# Altium footprint library Footprint.PcbLib: 155 footprints (part 6 of 10)
Each footprint in its own frame and in the unit in brackets; x right, y up, seen from the top. Pads: shape width x height; smd on the part's side, far side on the other; paste and mask are expansions set on the pad; w line width, h text height; cw(c..) or ccw(c..) is an arc to the next point about the centre after c.
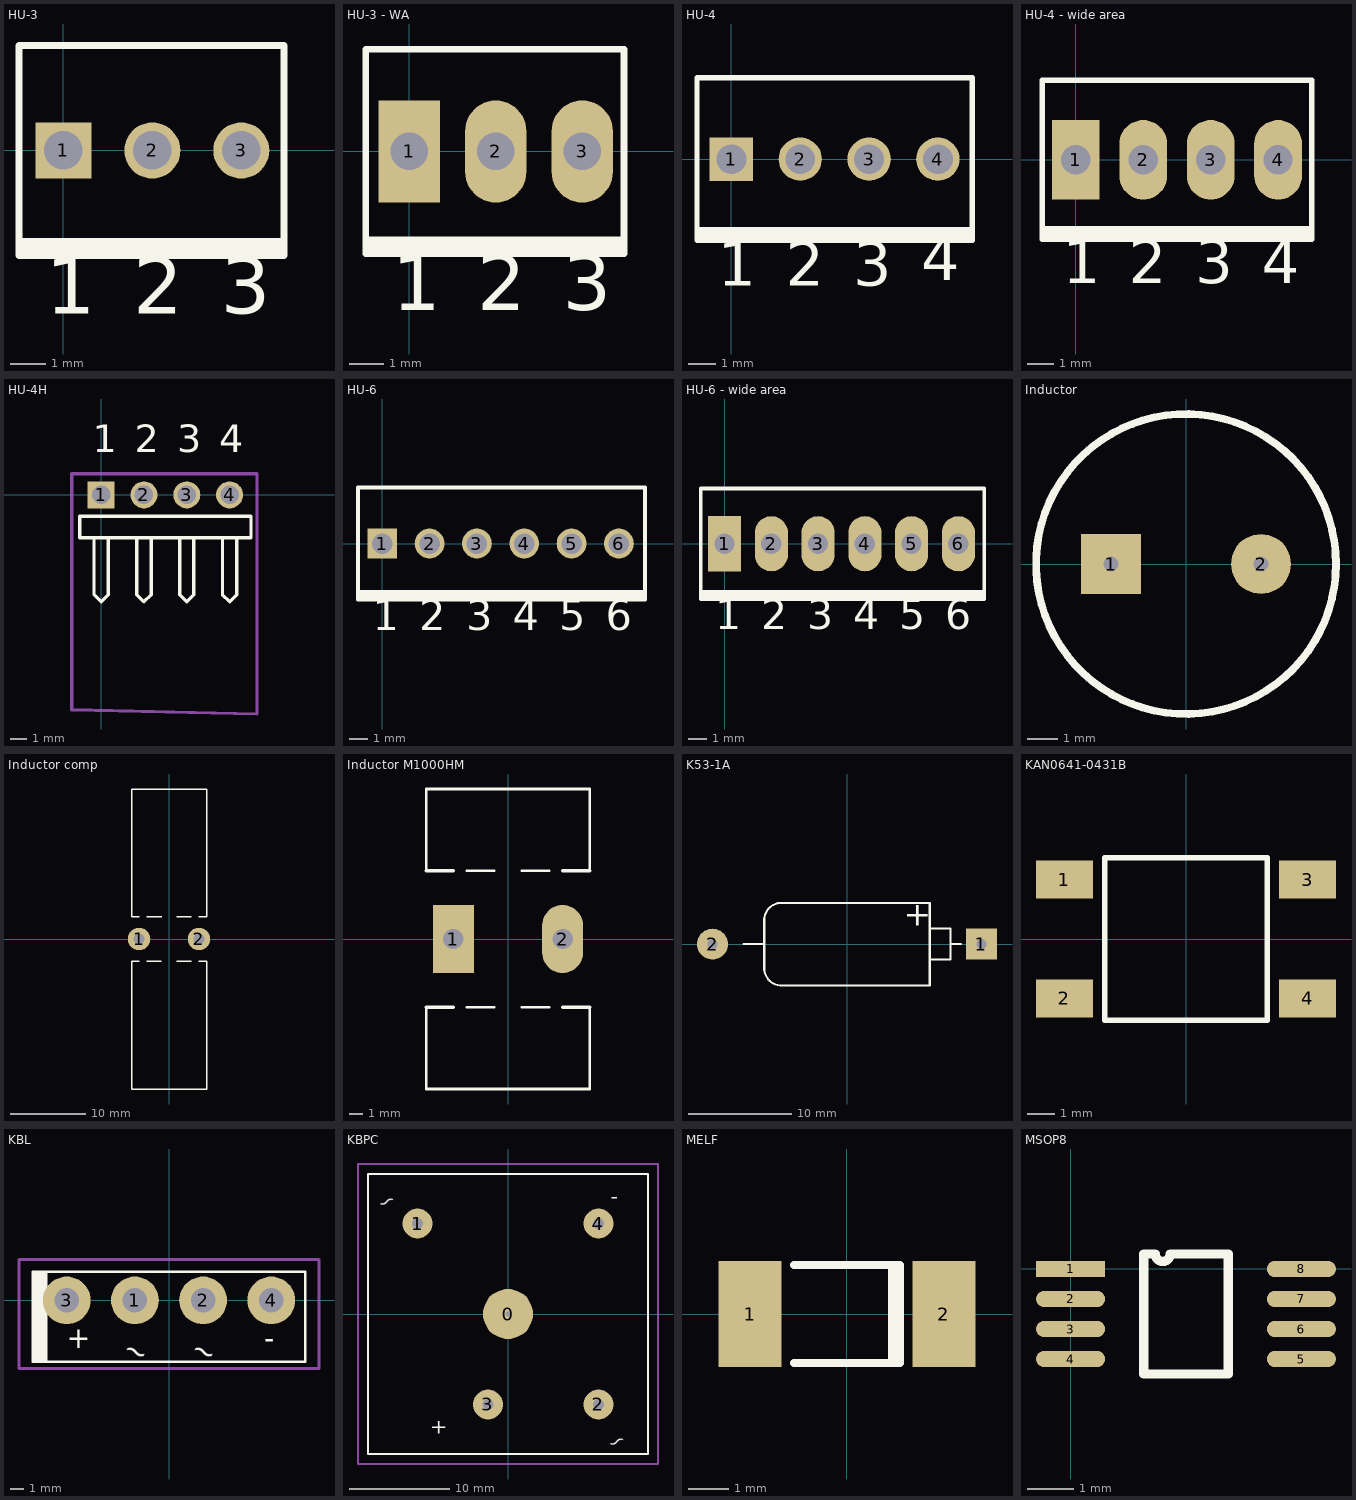
[diagram p5: the footprints below, top view; thin cyan lines are the x and y axes]

## HU-3 [mm] "Connector; Header; 4 Position"
pads (3):
  rect 1.6x1.6 hole 1.1: 1(0,0)
  round 1.6 hole 1.1: 2(2.54,0) 3(5.08,0)
Top Overlay:
  rectangle: -1.25,-3 6.3,-2.5
  lines w0.2: -1.27,-3 6.3,-3 6.3,3 -1.27,3 -1.27,-3
  text "1" at -0.5,-5.2 h2.8
  text "2" at 2,-5.2 h2.8
  text "3" at 4.5,-5.2 h2.8

## HU-3 - WA [mm] "Connector; Header; 4 Position"
pads (3):
  rect 1.8x3 hole 1.1: 1(0,0)
  oval 1.8x3 hole 1.1: 2(2.54,0) 3(5.08,0)
Top Overlay:
  rectangle: -1.25,-3 6.3,-2.5
  lines w0.2: -1.27,-3 -1.27,3 6.3,3 6.3,-3 -1.27,-3
  text "1" at -0.5,-5.2 h2.8
  text "3" at 4.5,-5.2 h2.8
  text "2" at 2,-5.2 h2.8

## HU-4 [mm] "Connector; Header; 4 Position"
pads (4):
  rect 1.6x1.6 hole 1.1: 1(0,0)
  round 1.6 hole 1.1: 2(2.54,0) 3(5.08,0) 4(7.62,0)
Top Overlay:
  rectangle: -1.25,-3 8.9,-2.5
  lines w0.2: -1.27,-3 -1.27,3 8.89,3 8.89,-3 -1.27,-3
  text "1" at -0.5,-5.2 h2.8
  text "2" at 2,-5.2 h2.8
  text "4" at 7,-5 h2.8
  text "3" at 4.5,-5.2 h2.8

## HU-4 - wide area [mm] "Connector; Header; 4 Position"
pads (4):
  rect 1.8x3 hole 1.1: 1(0,0)
  oval 1.8x3 hole 1.1: 2(2.54,0) 3(5.08,0) 4(7.62,0)
Top Overlay:
  rectangle: -1.25,-3 8.9,-2.5
  lines w0.2: -1.27,-3 -1.27,3 8.89,3 8.89,-3 -1.27,-3
  text "1" at -0.5,-5.2 h2.8
  text "2" at 2,-5.2 h2.8
  text "3" at 4.5,-5.2 h2.8
  text "4" at 7,-5.2 h2.8

## HU-4H [mm] "Connector; Header; 4 Position; Right Angle"
pads (4):
  rect 1.6x1.6 hole 1.1: 1(0,0)
  round 1.6 hole 1.1: 2(2.54,0) 3(5.08,0) 4(7.62,0)
Top Overlay:
  lines w0.2: -0.423,-2.54 -0.423,-5.927 0,-6.35 0.423,-5.927 0.423,-2.54 ; 2.117,-2.54 2.117,-5.927 2.54,-6.35 2.963,-5.927 2.963,-2.54 ; 4.657,-2.54 4.657,-5.927 5.08,-6.35 5.503,-5.927 5.503,-2.54 ; 7.197,-2.54 7.197,-5.927 7.62,-6.35 8.043,-5.927 8.043,-2.54 ; -1.27,-2.54 -1.27,-1.27 8.89,-1.27 8.89,-2.54 -1.27,-2.54
  text "1" at -0.5,2 h2.8
  text "2" at 2,2 h2.8
  text "3" at 4.5,2 h2.8
  text "4" at 7,2 h2.8
Mechanical 15:
  lines w0.2: -1.75,-12.75 9.25,-13 9.25,1.25 9,1.25 -1.25,1.25 -1.75,1.25 -1.75,-12.75

## HU-6 [mm] "Connector; Header; 6 Position"
pads (6):
  rect 1.6x1.6 hole 1.1: 1(0,0)
  round 1.6 hole 1.1: 2(2.54,0) 3(5.08,0) 4(7.62,0) 5(10.16,0) 6(12.7,0)
Top Overlay:
  rectangle: -1.25,-3 14.1,-2.5
  lines w0.2: -1.3,-3 -1.3,3 14.1,3 14.1,-3 -1.3,-3
  text "6" at 12,-5.2 h2.8
  text "5" at 9.5,-5.2 h2.8
  text "4" at 7,-5.2 h2.8
  text "3" at 4.5,-5.2 h2.8
  text "2" at 2,-5.2 h2.8
  text "1" at -0.5,-5.2 h2.8

## HU-6 - wide area [mm] "Connector; Header; 6 Position"
pads (6):
  rect 1.8x3 hole 1.1: 1(0,0)
  oval 1.8x3 hole 1.1: 2(2.54,0) 3(5.08,0) 4(7.62,0) 5(10.16,0) 6(12.7,0)
Top Overlay:
  rectangle: -1.25,-3 14.1,-2.5
  lines w0.2: -1.3,-3 14.1,-3 14.1,3 -1.3,3 -1.3,-3
  text "6" at 12,-5.2 h2.8
  text "5" at 9.5,-5.2 h2.8
  text "4" at 7,-5.2 h2.8
  text "3" at 4.5,-5.2 h2.8
  text "2" at 2,-5.2 h2.8
  text "1" at -0.5,-5.2 h2.8

## Inductor [mm] "D=10mm, shag=2.5mm"
pads (2):
  rect 2x2 hole 0.5: 1(-2.5,0)
  round 2 hole 0.5: 2(2.5,0)
Top Overlay:
  circle w0.254: c0,0 r5

## Inductor comp [mm] "Индуктивность компьютерная. D=20mm, h=9mm, шаг=8мм, d=1.3mm"
pads (2):
  round 3 hole 1.5: 1(-4,0) 2(4,0)
Top Overlay:
  lines w0.2: -4,-3 -5,-3 -5,-20 5,-20 5,-3 4,-3 ; -4,3 -5,3 -5,20 5,20 5,3 4,3 ; -3,-3 -1,-3 ; -3,3 -1,3 ; 1,-3 3,-3 ; 1,3 3,3

## Inductor M1000HM [mm] "Индуктивность. D=20mm, h=22mm, шаг=8мм, d=1.4mm"
height 22
pads (2):
  rect 3x5 hole 1.5: 1(-4,0)
  oval 3x5 hole 1.5: 2(4,0)
Top Overlay:
  lines w0.2: -6,-5 -6,-11 6,-11 6,-5 ; -6,5 -6,11 6,11 6,5 ; -3,-5 -1,-5 ; -3,5 -1,5 ; 1,-5 3,-5 ; 1,5 3,5
  lines w0.254: -6,-5 -4,-5 ; -6,5 -4,5 ; 4,-5 6,-5 ; 4,5 6,5

## K53-1A [mm] "D=8 h=16 d=0.8 Советский, общая длинна min = 26 мм"
height 8
pads (2):
  rect 3x3 hole 1: 1(13,0)
  round 3 hole 1: 2(-13,0)
Top Overlay:
  lines w0.2: -10,0 -8,0 ; -8.002,-2.408 ccw(c-6.33,-2.327) -6.281,-3.999 ; -8.002,2.408 cw(c-6.33,2.327) -6.281,3.999 ; -8,-2.5 -8,2.5 ; -6.4,-4 8,-4 8,4 4,4 -6.33,4 ; 8,-1.5 10,-1.5 10,1.5 8,1.5 ; 10,0 11,0
  text "+" at 5.5,1 h4

## KAN0641-0431B [mm] "Кнопка тактовая, SMD, 6.0х6.0, h=4.3 мм"
pads (4):
  rect 2.1x1.4 smd: 1(-4.5,2.2) 2(-4.5,-2.2) 3(4.5,2.2) 4(4.5,-2.2)
Top Overlay:
  lines w0.2: -3,-3 -3,3 3,3 3,-3 -3,-3

## KBL [mm] "KBL10  6,5mm x 19,5mm,  4A, 1000V"
pads (4):
  round 3.5 hole 1.8: 1(-2.5,0) 2(2.5,0) 3(-7.5,0) 4(7.5,0)
Top Overlay:
  rectangle: -10,-4.5 -9,2
  lines w0.2: -9,-4.5 -9,-4 -9,2 ; -10,-4.5 10,-4.5 10,2.1 -10,2.1 -10,-4.5
  text "+" at -7.5,-3.5 h1.52
  text "-" at 7,-3.5 h1.52
  text "~" at 1.5,-4 h1.52
  text "~" at -3.5,-4 h1.52
Mechanical 15:
  lines w0.2: -11,-5 11,-5 11,3 -11,3 -11,-5

## KBPC [mm] "KBPC3510W  28,4mm x 28,4mm"
pads (5):
  round 5 hole 0.5: 0(0,0)
  round 3 hole 1.07: 1(-9.05,9.05) 2(9.05,-9.05) 3(-2,-9.05)
  round 3 hole 1.1: 4(9.05,9.05)
Top Overlay:
  lines w0.2: -14,-14 -14,14 14,14 14,-14 -14,-14
  text "+" at -6,-12 h1.52
  text "-" at 11,11 h1.52
  text "~" at -11,11 h1.52
  text "~" at 12,-13 h1.52
Mechanical 15:
  lines w0.2: -15,-15 -15,15 15,15 15,-15 -15,-15

## MELF [mm] "Metal Electrode Face (MELF) Diode; Body 5 x 2.5 mm (LxDia)"
height 2.5
pads (2):
  rect 1.55x2.6 smd: 1(-2.375,0) 2(2.375,0)
Top Overlay:
  lines w0.2: -1.3,-1.2 1.3,-1.2 1.3,1.2 -1.3,1.2 ; 1.11,-1.2 1.11,1.2

## MSOP8 [mm]
pads (8):
  rect 1.5x0.35 smd: 1(0,0)
  oval 1.5x0.35 smd: 2(0,-0.65) 3(0,-1.3) 4(0,-1.95) 5(5,-1.95) 6(5,-1.3) 7(5,-0.65) 8(5,0)
Top Overlay:
  lines w0.2: 1.585,-2.275 3.415,-2.275 3.415,0.325 2.159,0.325 cw(c1.997,0.325) 1.834,0.325 1.585,0.325 1.585,-2.275